# Altium schematic symbol library QUTMS_SpecialResistors.SchLib: 1 symbol
Pins are listed as number, name and electrical type; pins without a type are passive.

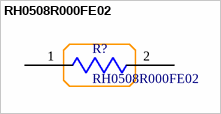
[diagram p0: symbol RH0508R000FE02]

## RH0508R000FE02
designator R?
8 Ohms ±1% 50W Wirewound Chassis Mount Resistor; ComponentLink1Description: Digikey; ComponentLink1URL: https://www.digikey.com.au/product-detail/en/vishay-dale/RH0508R000FE02/RHRD-8-0-ND/1166324; ComponentLink2Description: Datasheet; ComponentLink2URL: https://www.vishay.com/docs/30201/rhnh.pdf
footprint RH0508R000FE02 (8 Ohms ±1% 50W Wirewound Chassis Mount Resistor)
pins: 1, 2